# Altium schematic symbol library SCH - POWER - LINEAR VREG - TI TPS7A4001-EPDGN.SchLib: 1 symbol
Pins are listed as number, name and electrical type; pins without a type are passive.

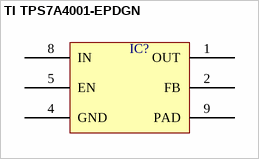
[diagram p0: symbol TI TPS7A4001-EPDGN]

## TI TPS7A4001-EPDGN
designator IC?  (value not drawn)
pins: 1 OUT, 2 FB, 4 GND, 5 EN, 8 IN, 9 PAD